# EAGLE library part LM393 (library hybridpi)
Dual 36V Comparator - Open Drain Datasheet: LM393 <http://www.ti.com/lit/ds/symlink/lm193-n.pdf>
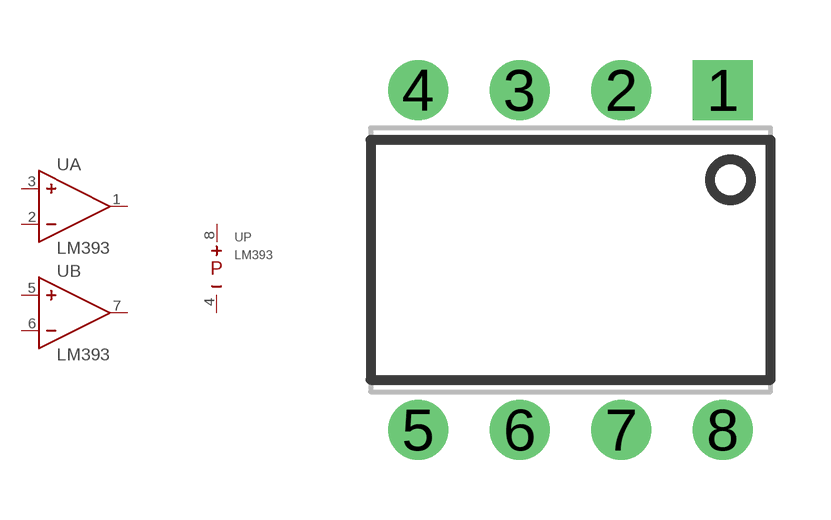
[diagram p9: symbol with the pads of PDIP-8; footprint PDIP-8]

Designator prefix U; gates A=OPAMP B=OPAMP P=IC-POWER

## LM393-PDIP-8  [PDIP-8]
1  A:OUT
2  A:IN-
3  A:IN+
4  P:NEG
5  B:IN+
6  B:IN-
7  B:OUT
8  P:POS

## Footprint PDIP-8 (pad centres in mm)
drill 0.7 pad 1.5 square: 1 3.81,4.25
drill 0.7 pad 1.5: 2 1.27,4.25; 3 -1.27,4.25; 4 -3.81,4.25; 5 -3.81,-4.25; 6 -1.27,-4.25; 7 1.27,-4.25; 8 3.81,-4.25